# Altium schematic symbol library lib_analog_rf.SchLib: 2 symbols
Pins are listed as number, name and electrical type; pins without a type are passive.

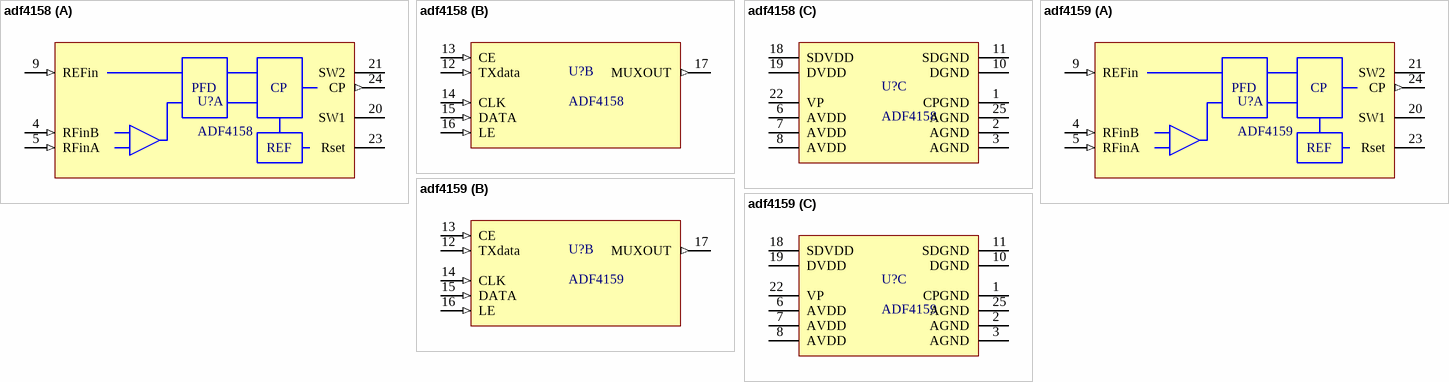
[diagram p0: symbols adf4158 to adf4159]

## adf4158
designator U?, comment ADF4158
Direct Modulation/Waveform Generating, 6.1 GHz, Fractional-N Frequency Synthesizer; ComponentLink1Description: datasheet; ComponentLink1URL: https://www.analog.com/media/en/technical-documentation/data-sheets/ADF4158.pdf; ComponentLink2Description: user_guide; ComponentLink2URL: https://www.analog.com/media/en/technical-documentation/user-guides/UG-123.pdf
footprint QFN127P600-8N_ADF4159
part A pins: 4 RFinB (in), 5 RFinA (in), 9 REFin (in), 20 SW1, 21 SW2, 23 Rset, 24 CP (out)
part B pins: 12 TXdata (in), 13 CE (in), 14 CLK (in), 15 DATA (in), 16 LE (in), 17 MUXOUT (out)
part C pins: 1 CPGND (power), 2 AGND (power), 3 AGND (power), 6 AVDD (power), 7 AVDD (power), 8 AVDD (power), 10 DGND (power), 11 SDGND (power), 18 SDVDD (power), 19 DVDD (power), 22 VP (power), 25 AGND (power)
part A text: PFD; REF

## adf4159
designator U?, comment ADF4159
Direct Modulation/Fast Waveform Generating, 13 GHz, Fractional-N Frequency Synthesizer; ComponentLink1Description: datasheet; ComponentLink1URL: https://www.analog.com/media/en/technical-documentation/data-sheets/ADF4159.pdf; ComponentLink2Description: user_guide; ComponentLink2URL: https://www.analog.com/media/en/technical-documentation/user-guides/UG-476.pdf
footprint QFN127P600-8N_ADF4159
part A pins: 4 RFinB (in), 5 RFinA (in), 9 REFin (in), 20 SW1, 21 SW2, 23 Rset, 24 CP (out)
part B pins: 12 TXdata (in), 13 CE (in), 14 CLK (in), 15 DATA (in), 16 LE (in), 17 MUXOUT (out)
part C pins: 1 CPGND (power), 2 AGND (power), 3 AGND (power), 6 AVDD (power), 7 AVDD (power), 8 AVDD (power), 10 DGND (power), 11 SDGND (power), 18 SDVDD (power), 19 DVDD (power), 22 VP (power), 25 AGND (power)
part A text: PFD; REF